# EAGLE library part RASPBERRY_PI_A+ (library FaBo-Boards)
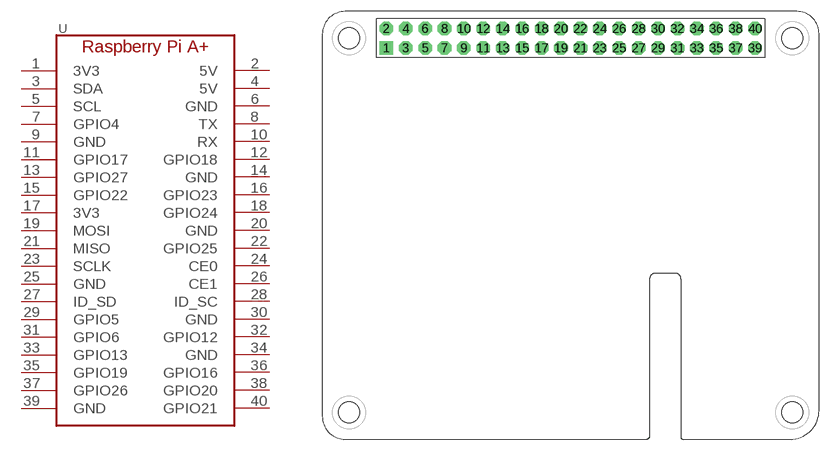
[diagram p10: symbol with the pads of RASPBERRY_PI_A+; footprint RASPBERRY_PI_A+]

Designator prefix -

## RASPBERRY_PI_A+  [RASPBERRY_PI_A+]
1  3V3
2  5V
3  SDA
4  5V
5  SCL
6  GND
7  GPIO4
8  TX
9  GND
10  RX
11  GPIO17
12  GPIO18
13  GPIO27
14  GND
15  GPIO22
16  GPIO23
17  3V3
18  GPIO24
19  MOSI
20  GND
21  MISO
22  GPIO25
23  SCLK
24  CE0
25  GND
26  CE1
27  ID_SD
28  ID_SC
29  GPIO5
30  GND
31  GPIO6
32  GPIO12
33  GPIO13
34  GND
35  GPIO19
36  GPIO16
37  GPIO26
38  GPIO20
39  GND
40  GPIO21

## Footprint RASPBERRY_PI_A+ (pad centres in mm)
drill 1 pad 1.778 square: 1 8.484,51.435
drill 1 pad 1.778 octagon: 2 8.484,53.975; 3 11.024,51.435; 4 11.024,53.975; 5 13.564,51.435; 6 13.564,53.975; 7 16.104,51.435; 8 16.104,53.975; 9 18.644,51.435; 10 18.644,53.975; 11 21.184,51.435; 12 21.184,53.975; 13 23.724,51.435; 14 23.724,53.975; 15 26.264,51.435; 16 26.264,53.975; 17 28.804,51.435; 18 28.804,53.975; 19 31.344,51.435; 20 31.344,53.975; 21 33.884,51.435; 22 33.884,53.975; 23 36.424,51.435; 24 36.424,53.975; 25 38.964,51.435; 26 38.964,53.975; 27 41.504,51.435; 28 41.504,53.975; 29 44.044,51.435; 30 44.044,53.975; 31 46.584,51.435; 32 46.584,53.975; 33 49.124,51.435; 34 49.124,53.975; 35 51.664,51.435; 36 51.664,53.975; 37 54.204,51.435; 38 54.204,53.975; 39 56.744,51.435; 40 56.744,53.975